# Altium schematic symbol library 1206 10R.Schlib: 1 symbol
Pins are listed as number, name and electrical type; pins without a type are passive.

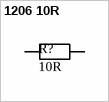
[diagram p0: symbol 1206 10R]

## 1206 10R
designator R?, comment value 10R  (hidden comment: Resistor)
10Ω ±1% 0.25W ±400ppm/℃ 1206 Chip Resistor - Surface Mount RoHS; LCSC Part #: C17903
footprint RES 1206_3216 (Chip Resistor, 2-Leads, Body 3.13x1.55mm, IPC Medium Density)
pins: 1, 2